# Altium footprint library MR26.PCBLIB: 50 footprints (part 4 of 4)
Each footprint in its own frame and in the unit in brackets; x right, y up, seen from the top. Pads: shape width x height; smd on the part's side, far side on the other; paste and mask are expansions set on the pad; w line width, h text height; cw(c..) or ccw(c..) is an arc to the next point about the centre after c.
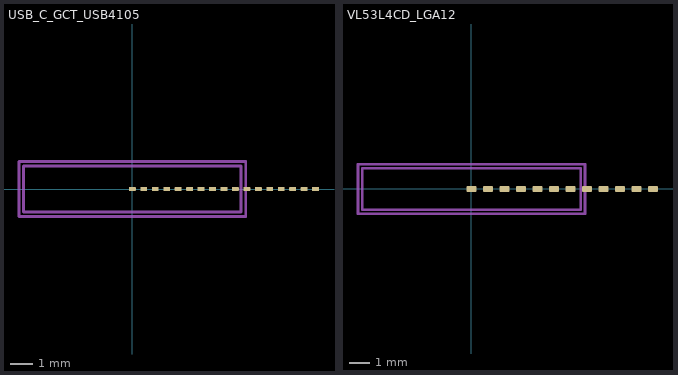
[diagram p3: the footprints below, top view; thin cyan lines are the x and y axes]

## USB_C_GCT_USB4105 [mm]
pads (17):
  rrect30% 0.3x0.175 smd: A1(6,0) A4(0,0) A5(2,0) A6(4,0) A7(5,0) A8(3,0) A9(0.5,0) A12(6.5,0) B1(7,0) B4(1,0) B5(2.5,0) B6(4.5,0) B7(5.5,0) B8(3.5,0) B9(1.5,0) B12(7.5,0) S1(8,0)
tDocu:
  lines w0.127: -4.95,-1.2 4.95,-1.2 4.95,1.2 -4.95,1.2 -4.95,-1.2 ; -4.75,-1 4.75,-1 4.75,1 -4.75,1 -4.75,-1

## VL53L4CD_LGA12 [mm]
pads (12):
  rrect30% 0.48x0.28 smd: 1(0.8,0) 2(4.8,0) 3(5.6,0) 4(6.4,0) 5(1.6,0) 6(7.2,0) 7(4,0) 8(8.8,0) 9(3.2,0) 10(2.4,0) 11(0,0) 12(8,0)
tDocu:
  lines w0.127: -5.5,-1.2 5.5,-1.2 5.5,1.2 -5.5,1.2 -5.5,-1.2 ; -5.3,-1 5.3,-1 5.3,1 -5.3,1 -5.3,-1